# EAGLE library part HY2213-BB3A (library HY2213-BB3A)
PMIC - Battery Management SOT-23-6 RoHS Source: Datasheet <https://datasheet.lcsc.com/szlcsc/HYCON-Tech-HY2213-BB3A_C113632.pdf>
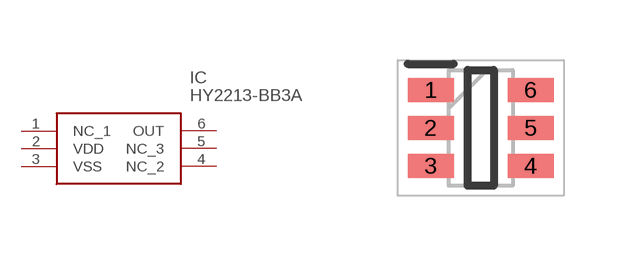
[diagram p0: symbol with the pads of SOT95P280X140-6N; footprint SOT95P280X140-6N]

Designator prefix IC

## HY2213-BB3A (Description: PMIC - Battery Management SOT-23-6 RoHS; Height: 1.4mm; Manufacturer_Name: Hycon; Manufacturer_Part_Number: HY2213-BB3A)  [SOT95P280X140-6N]
1  NC_1
2  VDD
3  VSS
4  NC_2
5  NC_3
6  OUT

## Footprint SOT95P280X140-6N (pad centres in mm)
HY2213-BB3A
smd 1.15 x 0.6: 1 -1.25,0.95; 2 -1.25,0; 3 -1.25,-0.95; 4 1.25,-0.95; 5 1.25,0; 6 1.25,0.95